# EAGLE library part TLW-122-05-G-S (library SAMTEC-Txx_By_element14_Batch_1)
CONNECTOR HEADER, 22 WAY, 1ROW
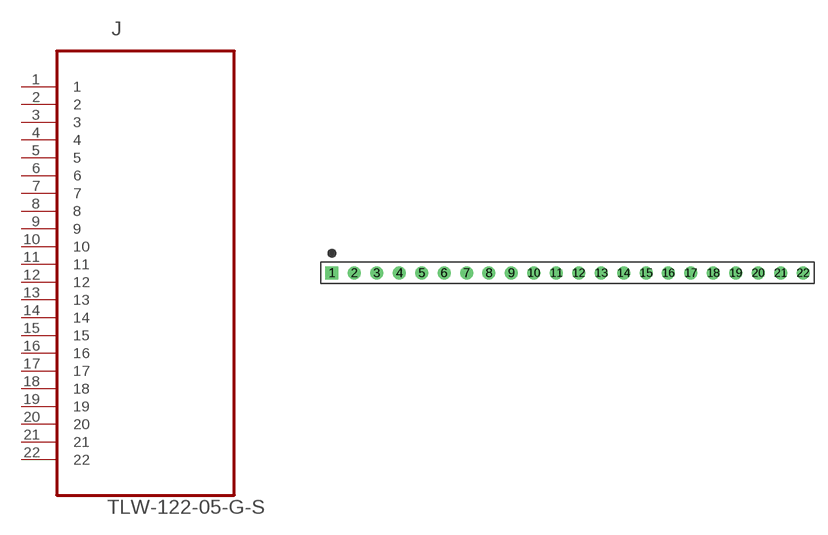
[diagram p266: symbol with the pads of SAMTEC_TLW-122-05-G-S; footprint SAMTEC_TLW-122-05-G-S]

Designator prefix J

## TLW-122-05-G-S (MPN: TLW-122-05-G-S; OC_FARNELL: -; OC_NEWARK: 12P0527; PACKAGE: CONN HEADER 22 POS .100 inch; SUPPLIER: SAMTEC)  [SAMTEC_TLW-122-05-G-S]
1  1  pas
2  2  pas
3  3  pas
4  4  pas
5  5  pas
6  6  pas
7  7  pas
8  8  pas
9  9  pas
10  10  pas
11  11  pas
12  12  pas
13  13  pas
14  14  pas
15  15  pas
16  16  pas
17  17  pas
18  18  pas
19  19  pas
20  20  pas
21  21  pas
22  22  pas

## Footprint SAMTEC_TLW-122-05-G-S (pad centres in mm)
drill 0.965 square: 1 -53.34,0
drill 0.965: 2 -50.8,0; 3 -48.26,0; 4 -45.72,0; 5 -43.18,0; 6 -40.64,0; 7 -38.1,0; 8 -35.56,0; 9 -33.02,0; 10 -30.48,0; 11 -27.94,0; 12 -25.4,0; 13 -22.86,0; 14 -20.32,0; 15 -17.78,0; 16 -15.24,0; 17 -12.7,0; 18 -10.16,0; 19 -7.62,0; 20 -5.08,0; 21 -2.54,0; 22 0,0